# Altium integrated library MAGNETIC-HMC5883L_PLCC16_.IntLib: 1 symbol
Pins are listed as number, name and electrical type; pins without a type are passive.

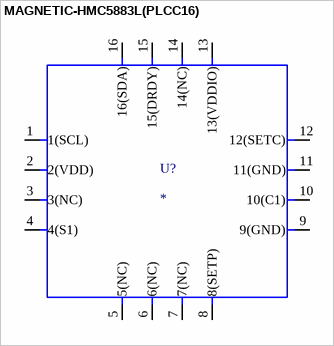
[diagram p0: symbol MAGNETIC-HMC5883L(PLCC16)]

## MAGNETIC-HMC5883L(PLCC16)
designator U?
HMC5883L HMC Magnetic, Digital Compass Sensor Evaluation Board; MF: Honeywell Aerospace; MP: HMC5883L; Check_prices: https://www.snapeda.com/parts/HMC5883L/Honeywell%20Aerospace/view-part/106081/?ref=eda; Package: LCC-16 Honeywell; SnapEDA_Link: https://www.snapeda.com/parts/HMC5883L/Honeywell%20Aerospace/view-part/106081/?ref=snap; Value: *; Price: None; Availability: Unavailable
footprint PLCC16-0.5-3X3MM
pins: 1 1(SCL) (io), 2 2(VDD) (power), 3 3(NC), 4 4(S1) (io), 5 5(NC), 6 6(NC), 7 7(NC), 8 8(SETP) (io), 9 9(GND) (power), 10 10(C1) (io), 11 11(GND) (power), 12 12(SETC) (io), 13 13(VDDIO) (power), 14 14(NC), 15 15(DRDY) (io), 16 16(SDA) (io)